# Altium footprint library 4 Leg Switch.PcbLib: 1 footprints
Each footprint in its own frame and in the unit in brackets; x right, y up, seen from the top. Pads: shape width x height; smd on the part's side, far side on the other; paste and mask are expansions set on the pad; w line width, h text height; cw(c..) or ccw(c..) is an arc to the next point about the centre after c.
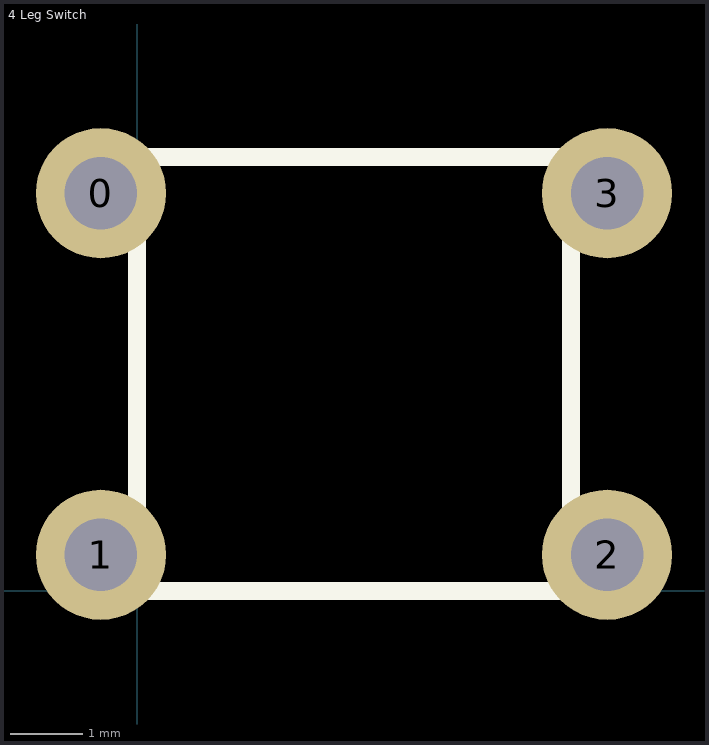
[diagram p0: the footprint, top view; thin cyan lines are the x and y axes]

## 4 Leg Switch [mm]
pads (4):
  round 1.8 hole 1: 0(-0.5,5.5) 1(-0.5,0.5) 2(6.5,0.5) 3(6.5,5.5)
Top Overlay:
  lines w0.254: 0,0 6,0 6,6 0,6 0,0